# Altium footprint library IPC-SM-782 Section 14.1.3 PBGA 1.0mm.PcbLib: 50 footprints (part 4 of 14)
Each footprint in its own frame and in the unit in brackets; x right, y up, seen from the top. Pads: shape width x height; smd on the part's side, far side on the other; paste and mask are expansions set on the pad; w line width, h text height; cw(c..) or ccw(c..) is an arc to the next point about the centre after c.
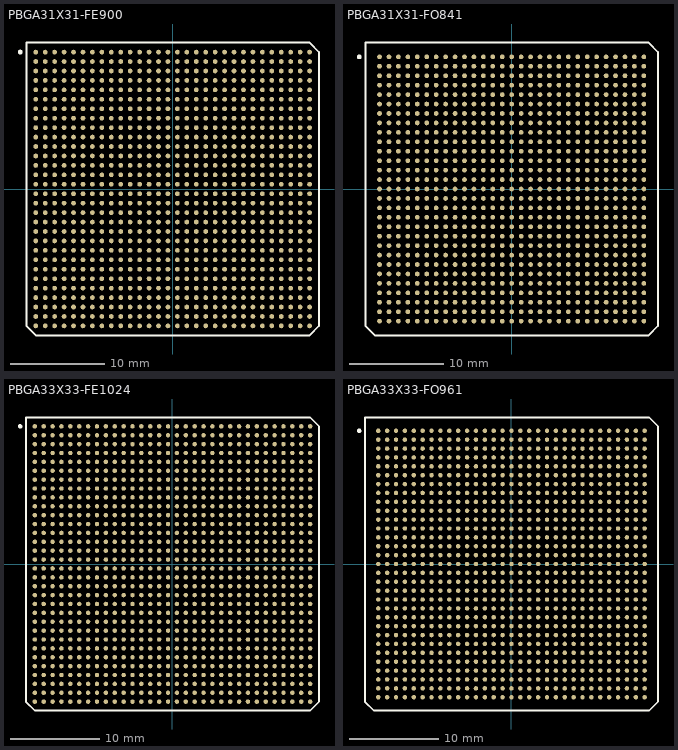
[diagram p3: the footprints below, top view; thin cyan lines are the x and y axes]

## PBGA31X31-FE900 [mm] "BGA; 900 Balls; Body 31 x 31 mm; Pitch 1 mm"
height 3.5
pads (900):
  round 0.5 smd: A1(-14.5,14.5) A2(-13.5,14.5) A3(-12.5,14.5) A4(-11.5,14.5) A5(-10.5,14.5) A6(-9.5,14.5) A7(-8.5,14.5) A8(-7.5,14.5) A9(-6.5,14.5) A10(-5.5,14.5) A11(-4.5,14.5) A12(-3.5,14.5) A13(-2.5,14.5) A14(-1.5,14.5) A15(-0.5,14.5) A16(0.5,14.5) A17(1.5,14.5) A18(2.5,14.5) A19(3.5,14.5) A20(4.5,14.5) A21(5.5,14.5) A22(6.5,14.5) A23(7.5,14.5) A24(8.5,14.5) A25(9.5,14.5) A26(10.5,14.5) A27(11.5,14.5) A28(12.5,14.5) A29(13.5,14.5) A30(14.5,14.5) AA1(-14.5,-5.5) AA2(-13.5,-5.5) AA3(-12.5,-5.5) AA4(-11.5,-5.5) AA5(-10.5,-5.5) AA6(-9.5,-5.5) AA7(-8.5,-5.5) AA8(-7.5,-5.5) AA9(-6.5,-5.5) AA10(-5.5,-5.5) AA11(-4.5,-5.5) AA12(-3.5,-5.5) AA13(-2.5,-5.5) AA14(-1.5,-5.5) AA15(-0.5,-5.5) AA16(0.5,-5.5) AA17(1.5,-5.5) AA18(2.5,-5.5) AA19(3.5,-5.5) AA20(4.5,-5.5) AA21(5.5,-5.5) AA22(6.5,-5.5) AA23(7.5,-5.5) AA24(8.5,-5.5) AA25(9.5,-5.5) AA26(10.5,-5.5) AA27(11.5,-5.5) AA28(12.5,-5.5) AA29(13.5,-5.5) AA30(14.5,-5.5) AB1(-14.5,-6.5) AB2(-13.5,-6.5) AB3(-12.5,-6.5) AB4(-11.5,-6.5) AB5(-10.5,-6.5) AB6(-9.5,-6.5) AB7(-8.5,-6.5) AB8(-7.5,-6.5) AB9(-6.5,-6.5) AB10(-5.5,-6.5) AB11(-4.5,-6.5) AB12(-3.5,-6.5) AB13(-2.5,-6.5) AB14(-1.5,-6.5) AB15(-0.5,-6.5) AB16(0.5,-6.5) AB17(1.5,-6.5) AB18(2.5,-6.5) AB19(3.5,-6.5) AB20(4.5,-6.5) AB21(5.5,-6.5) AB22(6.5,-6.5) AB23(7.5,-6.5) AB24(8.5,-6.5) AB25(9.5,-6.5) AB26(10.5,-6.5) AB27(11.5,-6.5) AB28(12.5,-6.5) AB29(13.5,-6.5) AB30(14.5,-6.5) AC1(-14.5,-7.5) AC2(-13.5,-7.5) AC3(-12.5,-7.5) AC4(-11.5,-7.5) AC5(-10.5,-7.5) AC6(-9.5,-7.5) AC7(-8.5,-7.5) AC8(-7.5,-7.5) AC9(-6.5,-7.5) AC10(-5.5,-7.5) AC11(-4.5,-7.5) AC12(-3.5,-7.5) AC13(-2.5,-7.5) AC14(-1.5,-7.5) AC15(-0.5,-7.5) AC16(0.5,-7.5) AC17(1.5,-7.5) AC18(2.5,-7.5) AC19(3.5,-7.5) AC20(4.5,-7.5) AC21(5.5,-7.5) AC22(6.5,-7.5) AC23(7.5,-7.5) AC24(8.5,-7.5) AC25(9.5,-7.5) AC26(10.5,-7.5) AC27(11.5,-7.5) AC28(12.5,-7.5) AC29(13.5,-7.5) AC30(14.5,-7.5) AD1(-14.5,-8.5) AD2(-13.5,-8.5) AD3(-12.5,-8.5) AD4(-11.5,-8.5) AD5(-10.5,-8.5) AD6(-9.5,-8.5) AD7(-8.5,-8.5) AD8(-7.5,-8.5) AD9(-6.5,-8.5) AD10(-5.5,-8.5) AD11(-4.5,-8.5) AD12(-3.5,-8.5) AD13(-2.5,-8.5) AD14(-1.5,-8.5) AD15(-0.5,-8.5) AD16(0.5,-8.5) AD17(1.5,-8.5) AD18(2.5,-8.5) AD19(3.5,-8.5) AD20(4.5,-8.5) AD21(5.5,-8.5) AD22(6.5,-8.5) AD23(7.5,-8.5) AD24(8.5,-8.5) AD25(9.5,-8.5) AD26(10.5,-8.5) AD27(11.5,-8.5) AD28(12.5,-8.5) AD29(13.5,-8.5) AD30(14.5,-8.5) AE1(-14.5,-9.5) AE2(-13.5,-9.5) AE3(-12.5,-9.5) AE4(-11.5,-9.5) AE5(-10.5,-9.5) AE6(-9.5,-9.5) AE7(-8.5,-9.5) AE8(-7.5,-9.5) AE9(-6.5,-9.5) AE10(-5.5,-9.5) AE11(-4.5,-9.5) AE12(-3.5,-9.5) AE13(-2.5,-9.5) AE14(-1.5,-9.5) AE15(-0.5,-9.5) AE16(0.5,-9.5) AE17(1.5,-9.5) AE18(2.5,-9.5) AE19(3.5,-9.5) AE20(4.5,-9.5) AE21(5.5,-9.5) AE22(6.5,-9.5) AE23(7.5,-9.5) AE24(8.5,-9.5) AE25(9.5,-9.5) AE26(10.5,-9.5) AE27(11.5,-9.5) AE28(12.5,-9.5) AE29(13.5,-9.5) AE30(14.5,-9.5) AF1(-14.5,-10.5) AF2(-13.5,-10.5) AF3(-12.5,-10.5) AF4(-11.5,-10.5) AF5(-10.5,-10.5) AF6(-9.5,-10.5) AF7(-8.5,-10.5) AF8(-7.5,-10.5) AF9(-6.5,-10.5) AF10(-5.5,-10.5) AF11(-4.5,-10.5) AF12(-3.5,-10.5) AF13(-2.5,-10.5) AF14(-1.5,-10.5) AF15(-0.5,-10.5) AF16(0.5,-10.5) AF17(1.5,-10.5) AF18(2.5,-10.5) AF19(3.5,-10.5) AF20(4.5,-10.5) AF21(5.5,-10.5) AF22(6.5,-10.5) AF23(7.5,-10.5) AF24(8.5,-10.5) AF25(9.5,-10.5) AF26(10.5,-10.5) AF27(11.5,-10.5) AF28(12.5,-10.5) AF29(13.5,-10.5) AF30(14.5,-10.5) AG1(-14.5,-11.5) AG2(-13.5,-11.5) AG3(-12.5,-11.5) AG4(-11.5,-11.5) AG5(-10.5,-11.5) AG6(-9.5,-11.5) AG7(-8.5,-11.5) AG8(-7.5,-11.5) AG9(-6.5,-11.5) AG10(-5.5,-11.5) AG11(-4.5,-11.5) AG12(-3.5,-11.5) AG13(-2.5,-11.5) AG14(-1.5,-11.5) AG15(-0.5,-11.5) AG16(0.5,-11.5) AG17(1.5,-11.5) AG18(2.5,-11.5) AG19(3.5,-11.5) AG20(4.5,-11.5) AG21(5.5,-11.5) AG22(6.5,-11.5) AG23(7.5,-11.5) AG24(8.5,-11.5) AG25(9.5,-11.5) AG26(10.5,-11.5) AG27(11.5,-11.5) AG28(12.5,-11.5) AG29(13.5,-11.5) AG30(14.5,-11.5) AH1(-14.5,-12.5) AH2(-13.5,-12.5) AH3(-12.5,-12.5) AH4(-11.5,-12.5) AH5(-10.5,-12.5) AH6(-9.5,-12.5) AH7(-8.5,-12.5) AH8(-7.5,-12.5) AH9(-6.5,-12.5) AH10(-5.5,-12.5) AH11(-4.5,-12.5) AH12(-3.5,-12.5) AH13(-2.5,-12.5) AH14(-1.5,-12.5) AH15(-0.5,-12.5) AH16(0.5,-12.5) AH17(1.5,-12.5) AH18(2.5,-12.5) AH19(3.5,-12.5) AH20(4.5,-12.5) AH21(5.5,-12.5) AH22(6.5,-12.5) AH23(7.5,-12.5) AH24(8.5,-12.5) AH25(9.5,-12.5) AH26(10.5,-12.5) AH27(11.5,-12.5) AH28(12.5,-12.5) AH29(13.5,-12.5) AH30(14.5,-12.5) AJ1(-14.5,-13.5) AJ2(-13.5,-13.5) AJ3(-12.5,-13.5) AJ4(-11.5,-13.5) AJ5(-10.5,-13.5) AJ6(-9.5,-13.5) AJ7(-8.5,-13.5) AJ8(-7.5,-13.5) AJ9(-6.5,-13.5) AJ10(-5.5,-13.5) AJ11(-4.5,-13.5) AJ12(-3.5,-13.5) AJ13(-2.5,-13.5) AJ14(-1.5,-13.5) AJ15(-0.5,-13.5) AJ16(0.5,-13.5) AJ17(1.5,-13.5) AJ18(2.5,-13.5) AJ19(3.5,-13.5) AJ20(4.5,-13.5) AJ21(5.5,-13.5) AJ22(6.5,-13.5) AJ23(7.5,-13.5) AJ24(8.5,-13.5) AJ25(9.5,-13.5) AJ26(10.5,-13.5) AJ27(11.5,-13.5) AJ28(12.5,-13.5) AJ29(13.5,-13.5) AJ30(14.5,-13.5) AK1(-14.5,-14.5) AK2(-13.5,-14.5) AK3(-12.5,-14.5) AK4(-11.5,-14.5) AK5(-10.5,-14.5) AK6(-9.5,-14.5) AK7(-8.5,-14.5) AK8(-7.5,-14.5) AK9(-6.5,-14.5) AK10(-5.5,-14.5) AK11(-4.5,-14.5) AK12(-3.5,-14.5) AK13(-2.5,-14.5) AK14(-1.5,-14.5) AK15(-0.5,-14.5) AK16(0.5,-14.5) AK17(1.5,-14.5) AK18(2.5,-14.5) AK19(3.5,-14.5) AK20(4.5,-14.5) AK21(5.5,-14.5) AK22(6.5,-14.5) AK23(7.5,-14.5) AK24(8.5,-14.5) AK25(9.5,-14.5) AK26(10.5,-14.5) AK27(11.5,-14.5) AK28(12.5,-14.5) AK29(13.5,-14.5) AK30(14.5,-14.5) B1(-14.5,13.5) B2(-13.5,13.5) B3(-12.5,13.5) B4(-11.5,13.5) B5(-10.5,13.5) B6(-9.5,13.5) B7(-8.5,13.5) B8(-7.5,13.5) B9(-6.5,13.5) B10(-5.5,13.5) B11(-4.5,13.5) B12(-3.5,13.5) B13(-2.5,13.5) B14(-1.5,13.5) B15(-0.5,13.5) B16(0.5,13.5) B17(1.5,13.5) B18(2.5,13.5) B19(3.5,13.5) B20(4.5,13.5) B21(5.5,13.5) B22(6.5,13.5) B23(7.5,13.5) B24(8.5,13.5) B25(9.5,13.5) B26(10.5,13.5) B27(11.5,13.5) B28(12.5,13.5) B29(13.5,13.5) B30(14.5,13.5) C1(-14.5,12.5) C2(-13.5,12.5) C3(-12.5,12.5) C4(-11.5,12.5) C5(-10.5,12.5) C6(-9.5,12.5) C7(-8.5,12.5) C8(-7.5,12.5) C9(-6.5,12.5) C10(-5.5,12.5) C11(-4.5,12.5) C12(-3.5,12.5) C13(-2.5,12.5) C14(-1.5,12.5) C15(-0.5,12.5) C16(0.5,12.5) C17(1.5,12.5) C18(2.5,12.5) C19(3.5,12.5) C20(4.5,12.5) C21(5.5,12.5) C22(6.5,12.5) C23(7.5,12.5) C24(8.5,12.5) C25(9.5,12.5) C26(10.5,12.5) C27(11.5,12.5) C28(12.5,12.5) C29(13.5,12.5) C30(14.5,12.5) D1(-14.5,11.5) D2(-13.5,11.5) D3(-12.5,11.5) D4(-11.5,11.5) D5(-10.5,11.5) D6(-9.5,11.5) D7(-8.5,11.5) D8(-7.5,11.5) D9(-6.5,11.5) D10(-5.5,11.5) D11(-4.5,11.5) D12(-3.5,11.5) D13(-2.5,11.5) D14(-1.5,11.5) D15(-0.5,11.5) D16(0.5,11.5) D17(1.5,11.5) D18(2.5,11.5) D19(3.5,11.5) D20(4.5,11.5) D21(5.5,11.5) D22(6.5,11.5) D23(7.5,11.5) D24(8.5,11.5) D25(9.5,11.5) D26(10.5,11.5) D27(11.5,11.5) D28(12.5,11.5) D29(13.5,11.5) D30(14.5,11.5) E1(-14.5,10.5) E2(-13.5,10.5) E3(-12.5,10.5) E4(-11.5,10.5) E5(-10.5,10.5) E6(-9.5,10.5) E7(-8.5,10.5) E8(-7.5,10.5) E9(-6.5,10.5) E10(-5.5,10.5) E11(-4.5,10.5) E12(-3.5,10.5) E13(-2.5,10.5) E14(-1.5,10.5) E15(-0.5,10.5) E16(0.5,10.5) E17(1.5,10.5) E18(2.5,10.5) E19(3.5,10.5) E20(4.5,10.5) E21(5.5,10.5) E22(6.5,10.5) E23(7.5,10.5) E24(8.5,10.5) E25(9.5,10.5) E26(10.5,10.5) E27(11.5,10.5) E28(12.5,10.5) E29(13.5,10.5) E30(14.5,10.5) F1(-14.5,9.5) F2(-13.5,9.5) F3(-12.5,9.5) F4(-11.5,9.5) F5(-10.5,9.5) F6(-9.5,9.5) F7(-8.5,9.5) F8(-7.5,9.5) F9(-6.5,9.5) F10(-5.5,9.5) F11(-4.5,9.5) F12(-3.5,9.5) F13(-2.5,9.5) F14(-1.5,9.5) F15(-0.5,9.5) F16(0.5,9.5) F17(1.5,9.5) F18(2.5,9.5) F19(3.5,9.5) F20(4.5,9.5) F21(5.5,9.5) F22(6.5,9.5) F23(7.5,9.5) F24(8.5,9.5) F25(9.5,9.5) F26(10.5,9.5) F27(11.5,9.5) F28(12.5,9.5) F29(13.5,9.5) F30(14.5,9.5) G1(-14.5,8.5) G2(-13.5,8.5) G3(-12.5,8.5) G4(-11.5,8.5) G5(-10.5,8.5) G6(-9.5,8.5) G7(-8.5,8.5) G8(-7.5,8.5) G9(-6.5,8.5) G10(-5.5,8.5) G11(-4.5,8.5) G12(-3.5,8.5) G13(-2.5,8.5) G14(-1.5,8.5) G15(-0.5,8.5) G16(0.5,8.5) G17(1.5,8.5) G18(2.5,8.5) G19(3.5,8.5) G20(4.5,8.5) G21(5.5,8.5) G22(6.5,8.5) G23(7.5,8.5) G24(8.5,8.5) G25(9.5,8.5) G26(10.5,8.5) G27(11.5,8.5) G28(12.5,8.5) G29(13.5,8.5) G30(14.5,8.5) H1(-14.5,7.5) H2(-13.5,7.5) H3(-12.5,7.5) H4(-11.5,7.5) H5(-10.5,7.5) H6(-9.5,7.5) H7(-8.5,7.5) H8(-7.5,7.5) H9(-6.5,7.5) H10(-5.5,7.5) H11(-4.5,7.5) H12(-3.5,7.5) H13(-2.5,7.5) H14(-1.5,7.5) H15(-0.5,7.5) H16(0.5,7.5) H17(1.5,7.5) H18(2.5,7.5) H19(3.5,7.5) H20(4.5,7.5) H21(5.5,7.5) H22(6.5,7.5) H23(7.5,7.5) H24(8.5,7.5) H25(9.5,7.5) H26(10.5,7.5) H27(11.5,7.5) H28(12.5,7.5) H29(13.5,7.5) H30(14.5,7.5) J1(-14.5,6.5) J2(-13.5,6.5) J3(-12.5,6.5) J4(-11.5,6.5) J5(-10.5,6.5) J6(-9.5,6.5) J7(-8.5,6.5) J8(-7.5,6.5) J9(-6.5,6.5) J10(-5.5,6.5) J11(-4.5,6.5) J12(-3.5,6.5) J13(-2.5,6.5) J14(-1.5,6.5) J15(-0.5,6.5) J16(0.5,6.5) J17(1.5,6.5) J18(2.5,6.5) J19(3.5,6.5) J20(4.5,6.5) J21(5.5,6.5) J22(6.5,6.5) J23(7.5,6.5) J24(8.5,6.5) J25(9.5,6.5) J26(10.5,6.5) J27(11.5,6.5) J28(12.5,6.5) J29(13.5,6.5) J30(14.5,6.5) K1(-14.5,5.5) K2(-13.5,5.5) K3(-12.5,5.5) K4(-11.5,5.5) K5(-10.5,5.5) K6(-9.5,5.5) K7(-8.5,5.5) K8(-7.5,5.5) K9(-6.5,5.5) K10(-5.5,5.5) K11(-4.5,5.5) K12(-3.5,5.5) K13(-2.5,5.5) K14(-1.5,5.5) K15(-0.5,5.5) K16(0.5,5.5) K17(1.5,5.5) K18(2.5,5.5) K19(3.5,5.5) K20(4.5,5.5) K21(5.5,5.5) K22(6.5,5.5) K23(7.5,5.5) K24(8.5,5.5) K25(9.5,5.5) K26(10.5,5.5) K27(11.5,5.5) K28(12.5,5.5) K29(13.5,5.5) K30(14.5,5.5) L1(-14.5,4.5) L2(-13.5,4.5) L3(-12.5,4.5) L4(-11.5,4.5) L5(-10.5,4.5) L6(-9.5,4.5) L7(-8.5,4.5) L8(-7.5,4.5) L9(-6.5,4.5) L10(-5.5,4.5) L11(-4.5,4.5) L12(-3.5,4.5) L13(-2.5,4.5) L14(-1.5,4.5) L15(-0.5,4.5) L16(0.5,4.5) L17(1.5,4.5) L18(2.5,4.5) L19(3.5,4.5) L20(4.5,4.5) L21(5.5,4.5) L22(6.5,4.5) L23(7.5,4.5) L24(8.5,4.5) L25(9.5,4.5) L26(10.5,4.5) L27(11.5,4.5) L28(12.5,4.5) L29(13.5,4.5) L30(14.5,4.5) M1(-14.5,3.5) M2(-13.5,3.5) M3(-12.5,3.5) M4(-11.5,3.5) M5(-10.5,3.5) M6(-9.5,3.5) M7(-8.5,3.5) M8(-7.5,3.5) M9(-6.5,3.5) M10(-5.5,3.5) M11(-4.5,3.5) M12(-3.5,3.5) M13(-2.5,3.5) M14(-1.5,3.5) M15(-0.5,3.5) M16(0.5,3.5) M17(1.5,3.5) M18(2.5,3.5) M19(3.5,3.5) M20(4.5,3.5) M21(5.5,3.5) M22(6.5,3.5) M23(7.5,3.5) M24(8.5,3.5) M25(9.5,3.5) M26(10.5,3.5) M27(11.5,3.5) M28(12.5,3.5) M29(13.5,3.5) M30(14.5,3.5) N1(-14.5,2.5) N2(-13.5,2.5) N3(-12.5,2.5) N4(-11.5,2.5) N5(-10.5,2.5) N6(-9.5,2.5) N7(-8.5,2.5) N8(-7.5,2.5) N9(-6.5,2.5) N10(-5.5,2.5) N11(-4.5,2.5) N12(-3.5,2.5) N13(-2.5,2.5) N14(-1.5,2.5) N15(-0.5,2.5) N16(0.5,2.5) N17(1.5,2.5) N18(2.5,2.5) N19(3.5,2.5) N20(4.5,2.5) N21(5.5,2.5) N22(6.5,2.5) N23(7.5,2.5) N24(8.5,2.5) N25(9.5,2.5) N26(10.5,2.5) N27(11.5,2.5) N28(12.5,2.5) N29(13.5,2.5) N30(14.5,2.5) P1(-14.5,1.5) P2(-13.5,1.5) P3(-12.5,1.5) P4(-11.5,1.5) P5(-10.5,1.5) P6(-9.5,1.5) P7(-8.5,1.5) P8(-7.5,1.5) P9(-6.5,1.5) P10(-5.5,1.5) P11(-4.5,1.5) P12(-3.5,1.5) P13(-2.5,1.5) P14(-1.5,1.5) P15(-0.5,1.5) P16(0.5,1.5) P17(1.5,1.5) P18(2.5,1.5) P19(3.5,1.5) P20(4.5,1.5) P21(5.5,1.5) P22(6.5,1.5) P23(7.5,1.5) P24(8.5,1.5) P25(9.5,1.5) P26(10.5,1.5) P27(11.5,1.5) P28(12.5,1.5) P29(13.5,1.5) P30(14.5,1.5) R1(-14.5,0.5) R2(-13.5,0.5) R3(-12.5,0.5) R4(-11.5,0.5) R5(-10.5,0.5) R6(-9.5,0.5) R7(-8.5,0.5) R8(-7.5,0.5) R9(-6.5,0.5) R10(-5.5,0.5) R11(-4.5,0.5) R12(-3.5,0.5) R13(-2.5,0.5) R14(-1.5,0.5) R15(-0.5,0.5) R16(0.5,0.5) R17(1.5,0.5) R18(2.5,0.5) R19(3.5,0.5) R20(4.5,0.5) R21(5.5,0.5) R22(6.5,0.5) R23(7.5,0.5) R24(8.5,0.5) R25(9.5,0.5) R26(10.5,0.5) R27(11.5,0.5) R28(12.5,0.5) R29(13.5,0.5) R30(14.5,0.5) T1(-14.5,-0.5) T2(-13.5,-0.5) T3(-12.5,-0.5) T4(-11.5,-0.5) T5(-10.5,-0.5) T6(-9.5,-0.5) T7(-8.5,-0.5) T8(-7.5,-0.5) T9(-6.5,-0.5) T10(-5.5,-0.5) T11(-4.5,-0.5) T12(-3.5,-0.5) T13(-2.5,-0.5) T14(-1.5,-0.5) T15(-0.5,-0.5) T16(0.5,-0.5) T17(1.5,-0.5) T18(2.5,-0.5) T19(3.5,-0.5) T20(4.5,-0.5) T21(5.5,-0.5) T22(6.5,-0.5) T23(7.5,-0.5) T24(8.5,-0.5) T25(9.5,-0.5) T26(10.5,-0.5) T27(11.5,-0.5) T28(12.5,-0.5) T29(13.5,-0.5) T30(14.5,-0.5) U1(-14.5,-1.5) U2(-13.5,-1.5) U3(-12.5,-1.5) U4(-11.5,-1.5) U5(-10.5,-1.5) U6(-9.5,-1.5) U7(-8.5,-1.5) U8(-7.5,-1.5) U9(-6.5,-1.5) U10(-5.5,-1.5) U11(-4.5,-1.5) U12(-3.5,-1.5) U13(-2.5,-1.5) U14(-1.5,-1.5) U15(-0.5,-1.5) U16(0.5,-1.5) U17(1.5,-1.5) U18(2.5,-1.5) U19(3.5,-1.5) U20(4.5,-1.5) U21(5.5,-1.5) U22(6.5,-1.5) U23(7.5,-1.5) U24(8.5,-1.5) U25(9.5,-1.5) U26(10.5,-1.5) U27(11.5,-1.5) U28(12.5,-1.5) U29(13.5,-1.5) U30(14.5,-1.5) V1(-14.5,-2.5) V2(-13.5,-2.5) V3(-12.5,-2.5) V4(-11.5,-2.5) V5(-10.5,-2.5) V6(-9.5,-2.5) V7(-8.5,-2.5) V8(-7.5,-2.5) V9(-6.5,-2.5) V10(-5.5,-2.5) V11(-4.5,-2.5) V12(-3.5,-2.5) V13(-2.5,-2.5) V14(-1.5,-2.5) V15(-0.5,-2.5) V16(0.5,-2.5) V17(1.5,-2.5) V18(2.5,-2.5) V19(3.5,-2.5) V20(4.5,-2.5) V21(5.5,-2.5) V22(6.5,-2.5) V23(7.5,-2.5) V24(8.5,-2.5) V25(9.5,-2.5) V26(10.5,-2.5) V27(11.5,-2.5) V28(12.5,-2.5) V29(13.5,-2.5) V30(14.5,-2.5) W1(-14.5,-3.5) W2(-13.5,-3.5) W3(-12.5,-3.5) W4(-11.5,-3.5) W5(-10.5,-3.5) W6(-9.5,-3.5) W7(-8.5,-3.5) W8(-7.5,-3.5) W9(-6.5,-3.5) W10(-5.5,-3.5) W11(-4.5,-3.5) W12(-3.5,-3.5) W13(-2.5,-3.5) W14(-1.5,-3.5) W15(-0.5,-3.5) W16(0.5,-3.5) W17(1.5,-3.5) W18(2.5,-3.5) W19(3.5,-3.5) W20(4.5,-3.5) W21(5.5,-3.5) W22(6.5,-3.5) W23(7.5,-3.5) W24(8.5,-3.5) W25(9.5,-3.5) W26(10.5,-3.5) W27(11.5,-3.5) W28(12.5,-3.5) W29(13.5,-3.5) W30(14.5,-3.5) Y1(-14.5,-4.5) Y2(-13.5,-4.5) Y3(-12.5,-4.5) Y4(-11.5,-4.5) Y5(-10.5,-4.5) Y6(-9.5,-4.5) Y7(-8.5,-4.5) Y8(-7.5,-4.5) Y9(-6.5,-4.5) Y10(-5.5,-4.5) Y11(-4.5,-4.5) Y12(-3.5,-4.5) Y13(-2.5,-4.5) Y14(-1.5,-4.5) Y15(-0.5,-4.5) Y16(0.5,-4.5) Y17(1.5,-4.5) Y18(2.5,-4.5) Y19(3.5,-4.5) Y20(4.5,-4.5) Y21(5.5,-4.5) Y22(6.5,-4.5) Y23(7.5,-4.5) Y24(8.5,-4.5) Y25(9.5,-4.5) Y26(10.5,-4.5) Y27(11.5,-4.5) Y28(12.5,-4.5) Y29(13.5,-4.5) Y30(14.5,-4.5)
Top Overlay:
  circle w0.25: c-16.15,14.5 r0.125
  lines w0.2: -15.5,-14.5 -15.5,15.5 14.5,15.5 15.5,14.5 15.5,-14.5 14.5,-15.5 -14.5,-15.5 -15.5,-14.5

## PBGA31X31-FO841 [mm] "BGA; 841 Balls; Body 31 x 31 mm; Pitch 1 mm"
height 3.5
pads (841):
  round 0.5 smd: A1(-14,14) A2(-13,14) A3(-12,14) A4(-11,14) A5(-10,14) A6(-9,14) A7(-8,14) A8(-7,14) A9(-6,14) A10(-5,14) A11(-4,14) A12(-3,14) A13(-2,14) A14(-1,14) A15(0,14) A16(1,14) A17(2,14) A18(3,14) A19(4,14) A20(5,14) A21(6,14) A22(7,14) A23(8,14) A24(9,14) A25(10,14) A26(11,14) A27(12,14) A28(13,14) A29(14,14) AA1(-14,-6) AA2(-13,-6) AA3(-12,-6) AA4(-11,-6) AA5(-10,-6) AA6(-9,-6) AA7(-8,-6) AA8(-7,-6) AA9(-6,-6) AA10(-5,-6) AA11(-4,-6) AA12(-3,-6) AA13(-2,-6) AA14(-1,-6) AA15(0,-6) AA16(1,-6) AA17(2,-6) AA18(3,-6) AA19(4,-6) AA20(5,-6) AA21(6,-6) AA22(7,-6) AA23(8,-6) AA24(9,-6) AA25(10,-6) AA26(11,-6) AA27(12,-6) AA28(13,-6) AA29(14,-6) AB1(-14,-7) AB2(-13,-7) AB3(-12,-7) AB4(-11,-7) AB5(-10,-7) AB6(-9,-7) AB7(-8,-7) AB8(-7,-7) AB9(-6,-7) AB10(-5,-7) AB11(-4,-7) AB12(-3,-7) AB13(-2,-7) AB14(-1,-7) AB15(0,-7) AB16(1,-7) AB17(2,-7) AB18(3,-7) AB19(4,-7) AB20(5,-7) AB21(6,-7) AB22(7,-7) AB23(8,-7) AB24(9,-7) AB25(10,-7) AB26(11,-7) AB27(12,-7) AB28(13,-7) AB29(14,-7) AC1(-14,-8) AC2(-13,-8) AC3(-12,-8) AC4(-11,-8) AC5(-10,-8) AC6(-9,-8) AC7(-8,-8) AC8(-7,-8) AC9(-6,-8) AC10(-5,-8) AC11(-4,-8) AC12(-3,-8) AC13(-2,-8) AC14(-1,-8) AC15(0,-8) AC16(1,-8) AC17(2,-8) AC18(3,-8) AC19(4,-8) AC20(5,-8) AC21(6,-8) AC22(7,-8) AC23(8,-8) AC24(9,-8) AC25(10,-8) AC26(11,-8) AC27(12,-8) AC28(13,-8) AC29(14,-8) AD1(-14,-9) AD2(-13,-9) AD3(-12,-9) AD4(-11,-9) AD5(-10,-9) AD6(-9,-9) AD7(-8,-9) AD8(-7,-9) AD9(-6,-9) AD10(-5,-9) AD11(-4,-9) AD12(-3,-9) AD13(-2,-9) AD14(-1,-9) AD15(0,-9) AD16(1,-9) AD17(2,-9) AD18(3,-9) AD19(4,-9) AD20(5,-9) AD21(6,-9) AD22(7,-9) AD23(8,-9) AD24(9,-9) AD25(10,-9) AD26(11,-9) AD27(12,-9) AD28(13,-9) AD29(14,-9) AE1(-14,-10) AE2(-13,-10) AE3(-12,-10) AE4(-11,-10) AE5(-10,-10) AE6(-9,-10) AE7(-8,-10) AE8(-7,-10) AE9(-6,-10) AE10(-5,-10) AE11(-4,-10) AE12(-3,-10) AE13(-2,-10) AE14(-1,-10) AE15(0,-10) AE16(1,-10) AE17(2,-10) AE18(3,-10) AE19(4,-10) AE20(5,-10) AE21(6,-10) AE22(7,-10) AE23(8,-10) AE24(9,-10) AE25(10,-10) AE26(11,-10) AE27(12,-10) AE28(13,-10) AE29(14,-10) AF1(-14,-11) AF2(-13,-11) AF3(-12,-11) AF4(-11,-11) AF5(-10,-11) AF6(-9,-11) AF7(-8,-11) AF8(-7,-11) AF9(-6,-11) AF10(-5,-11) AF11(-4,-11) AF12(-3,-11) AF13(-2,-11) AF14(-1,-11) AF15(0,-11) AF16(1,-11) AF17(2,-11) AF18(3,-11) AF19(4,-11) AF20(5,-11) AF21(6,-11) AF22(7,-11) AF23(8,-11) AF24(9,-11) AF25(10,-11) AF26(11,-11) AF27(12,-11) AF28(13,-11) AF29(14,-11) AG1(-14,-12) AG2(-13,-12) AG3(-12,-12) AG4(-11,-12) AG5(-10,-12) AG6(-9,-12) AG7(-8,-12) AG8(-7,-12) AG9(-6,-12) AG10(-5,-12) AG11(-4,-12) AG12(-3,-12) AG13(-2,-12) AG14(-1,-12) AG15(0,-12) AG16(1,-12) AG17(2,-12) AG18(3,-12) AG19(4,-12) AG20(5,-12) AG21(6,-12) AG22(7,-12) AG23(8,-12) AG24(9,-12) AG25(10,-12) AG26(11,-12) AG27(12,-12) AG28(13,-12) AG29(14,-12) AH1(-14,-13) AH2(-13,-13) AH3(-12,-13) AH4(-11,-13) AH5(-10,-13) AH6(-9,-13) AH7(-8,-13) AH8(-7,-13) AH9(-6,-13) AH10(-5,-13) AH11(-4,-13) AH12(-3,-13) AH13(-2,-13) AH14(-1,-13) AH15(0,-13) AH16(1,-13) AH17(2,-13) AH18(3,-13) AH19(4,-13) AH20(5,-13) AH21(6,-13) AH22(7,-13) AH23(8,-13) AH24(9,-13) AH25(10,-13) AH26(11,-13) AH27(12,-13) AH28(13,-13) AH29(14,-13) AJ1(-14,-14) AJ2(-13,-14) AJ3(-12,-14) AJ4(-11,-14) AJ5(-10,-14) AJ6(-9,-14) AJ7(-8,-14) AJ8(-7,-14) AJ9(-6,-14) AJ10(-5,-14) AJ11(-4,-14) AJ12(-3,-14) AJ13(-2,-14) AJ14(-1,-14) AJ15(0,-14) AJ16(1,-14) AJ17(2,-14) AJ18(3,-14) AJ19(4,-14) AJ20(5,-14) AJ21(6,-14) AJ22(7,-14) AJ23(8,-14) AJ24(9,-14) AJ25(10,-14) AJ26(11,-14) AJ27(12,-14) AJ28(13,-14) AJ29(14,-14) B1(-14,13) B2(-13,13) B3(-12,13) B4(-11,13) B5(-10,13) B6(-9,13) B7(-8,13) B8(-7,13) B9(-6,13) B10(-5,13) B11(-4,13) B12(-3,13) B13(-2,13) B14(-1,13) B15(0,13) B16(1,13) B17(2,13) B18(3,13) B19(4,13) B20(5,13) B21(6,13) B22(7,13) B23(8,13) B24(9,13) B25(10,13) B26(11,13) B27(12,13) B28(13,13) B29(14,13) C1(-14,12) C2(-13,12) C3(-12,12) C4(-11,12) C5(-10,12) C6(-9,12) C7(-8,12) C8(-7,12) C9(-6,12) C10(-5,12) C11(-4,12) C12(-3,12) C13(-2,12) C14(-1,12) C15(0,12) C16(1,12) C17(2,12) C18(3,12) C19(4,12) C20(5,12) C21(6,12) C22(7,12) C23(8,12) C24(9,12) C25(10,12) C26(11,12) C27(12,12) C28(13,12) C29(14,12) D1(-14,11) D2(-13,11) D3(-12,11) D4(-11,11) D5(-10,11) D6(-9,11) D7(-8,11) D8(-7,11) D9(-6,11) D10(-5,11) D11(-4,11) D12(-3,11) D13(-2,11) D14(-1,11) D15(0,11) D16(1,11) D17(2,11) D18(3,11) D19(4,11) D20(5,11) D21(6,11) D22(7,11) D23(8,11) D24(9,11) D25(10,11) D26(11,11) D27(12,11) D28(13,11) D29(14,11) E1(-14,10) E2(-13,10) E3(-12,10) E4(-11,10) E5(-10,10) E6(-9,10) E7(-8,10) E8(-7,10) E9(-6,10) E10(-5,10) E11(-4,10) E12(-3,10) E13(-2,10) E14(-1,10) E15(0,10) E16(1,10) E17(2,10) E18(3,10) E19(4,10) E20(5,10) E21(6,10) E22(7,10) E23(8,10) E24(9,10) E25(10,10) E26(11,10) E27(12,10) E28(13,10) E29(14,10) F1(-14,9) F2(-13,9) F3(-12,9) F4(-11,9) F5(-10,9) F6(-9,9) F7(-8,9) F8(-7,9) F9(-6,9) F10(-5,9) F11(-4,9) F12(-3,9) F13(-2,9) F14(-1,9) F15(0,9) F16(1,9) F17(2,9) F18(3,9) F19(4,9) F20(5,9) F21(6,9) F22(7,9) F23(8,9) F24(9,9) F25(10,9) F26(11,9) F27(12,9) F28(13,9) F29(14,9) G1(-14,8) G2(-13,8) G3(-12,8) G4(-11,8) G5(-10,8) G6(-9,8) G7(-8,8) G8(-7,8) G9(-6,8) G10(-5,8) G11(-4,8) G12(-3,8) G13(-2,8) G14(-1,8) G15(0,8) G16(1,8) G17(2,8) G18(3,8) G19(4,8) G20(5,8) G21(6,8) G22(7,8) G23(8,8) G24(9,8) G25(10,8) G26(11,8) G27(12,8) G28(13,8) G29(14,8) H1(-14,7) H2(-13,7) H3(-12,7) H4(-11,7) H5(-10,7) H6(-9,7) H7(-8,7) H8(-7,7) H9(-6,7) H10(-5,7) H11(-4,7) H12(-3,7) H13(-2,7) H14(-1,7) H15(0,7) H16(1,7) H17(2,7) H18(3,7) H19(4,7) H20(5,7) H21(6,7) H22(7,7) H23(8,7) H24(9,7) H25(10,7) H26(11,7) H27(12,7) H28(13,7) H29(14,7) J1(-14,6) J2(-13,6) J3(-12,6) J4(-11,6) J5(-10,6) J6(-9,6) J7(-8,6) J8(-7,6) J9(-6,6) J10(-5,6) J11(-4,6) J12(-3,6) J13(-2,6) J14(-1,6) J15(0,6) J16(1,6) J17(2,6) J18(3,6) J19(4,6) J20(5,6) J21(6,6) J22(7,6) J23(8,6) J24(9,6) J25(10,6) J26(11,6) J27(12,6) J28(13,6) J29(14,6) K1(-14,5) K2(-13,5) K3(-12,5) K4(-11,5) K5(-10,5) K6(-9,5) K7(-8,5) K8(-7,5) K9(-6,5) K10(-5,5) K11(-4,5) K12(-3,5) K13(-2,5) K14(-1,5) K15(0,5) K16(1,5) K17(2,5) K18(3,5) K19(4,5) K20(5,5) K21(6,5) K22(7,5) K23(8,5) K24(9,5) K25(10,5) K26(11,5) K27(12,5) K28(13,5) K29(14,5) L1(-14,4) L2(-13,4) L3(-12,4) L4(-11,4) L5(-10,4) L6(-9,4) L7(-8,4) L8(-7,4) L9(-6,4) L10(-5,4) L11(-4,4) L12(-3,4) L13(-2,4) L14(-1,4) L15(0,4) L16(1,4) L17(2,4) L18(3,4) L19(4,4) L20(5,4) L21(6,4) L22(7,4) L23(8,4) L24(9,4) L25(10,4) L26(11,4) L27(12,4) L28(13,4) L29(14,4) M1(-14,3) M2(-13,3) M3(-12,3) M4(-11,3) M5(-10,3) M6(-9,3) M7(-8,3) M8(-7,3) M9(-6,3) M10(-5,3) M11(-4,3) M12(-3,3) M13(-2,3) M14(-1,3) M15(0,3) M16(1,3) M17(2,3) M18(3,3) M19(4,3) M20(5,3) M21(6,3) M22(7,3) M23(8,3) M24(9,3) M25(10,3) M26(11,3) M27(12,3) M28(13,3) M29(14,3) N1(-14,2) N2(-13,2) N3(-12,2) N4(-11,2) N5(-10,2) N6(-9,2) N7(-8,2) N8(-7,2) N9(-6,2) N10(-5,2) N11(-4,2) N12(-3,2) N13(-2,2) N14(-1,2) N15(0,2) N16(1,2) N17(2,2) N18(3,2) N19(4,2) N20(5,2) N21(6,2) N22(7,2) N23(8,2) N24(9,2) N25(10,2) N26(11,2) N27(12,2) N28(13,2) N29(14,2) P1(-14,1) P2(-13,1) P3(-12,1) P4(-11,1) P5(-10,1) P6(-9,1) P7(-8,1) P8(-7,1) P9(-6,1) P10(-5,1) P11(-4,1) P12(-3,1) P13(-2,1) P14(-1,1) P15(0,1) P16(1,1) P17(2,1) P18(3,1) P19(4,1) P20(5,1) P21(6,1) P22(7,1) P23(8,1) P24(9,1) P25(10,1) P26(11,1) P27(12,1) P28(13,1) P29(14,1) R1(-14,0) R2(-13,0) R3(-12,0) R4(-11,0) R5(-10,0) R6(-9,0) R7(-8,0) R8(-7,0) R9(-6,0) R10(-5,0) R11(-4,0) R12(-3,0) R13(-2,0) R14(-1,0) R15(0,0) R16(1,0) R17(2,0) R18(3,0) R19(4,0) R20(5,0) R21(6,0) R22(7,0) R23(8,0) R24(9,0) R25(10,0) R26(11,0) R27(12,0) R28(13,0) R29(14,0) T1(-14,-1) T2(-13,-1) T3(-12,-1) T4(-11,-1) T5(-10,-1) T6(-9,-1) T7(-8,-1) T8(-7,-1) T9(-6,-1) T10(-5,-1) T11(-4,-1) T12(-3,-1) T13(-2,-1) T14(-1,-1) T15(0,-1) T16(1,-1) T17(2,-1) T18(3,-1) T19(4,-1) T20(5,-1) T21(6,-1) T22(7,-1) T23(8,-1) T24(9,-1) T25(10,-1) T26(11,-1) T27(12,-1) T28(13,-1) T29(14,-1) U1(-14,-2) U2(-13,-2) U3(-12,-2) U4(-11,-2) U5(-10,-2) U6(-9,-2) U7(-8,-2) U8(-7,-2) U9(-6,-2) U10(-5,-2) U11(-4,-2) U12(-3,-2) U13(-2,-2) U14(-1,-2) U15(0,-2) U16(1,-2) U17(2,-2) U18(3,-2) U19(4,-2) U20(5,-2) U21(6,-2) U22(7,-2) U23(8,-2) U24(9,-2) U25(10,-2) U26(11,-2) U27(12,-2) U28(13,-2) U29(14,-2) V1(-14,-3) V2(-13,-3) V3(-12,-3) V4(-11,-3) V5(-10,-3) V6(-9,-3) V7(-8,-3) V8(-7,-3) V9(-6,-3) V10(-5,-3) V11(-4,-3) V12(-3,-3) V13(-2,-3) V14(-1,-3) V15(0,-3) V16(1,-3) V17(2,-3) V18(3,-3) V19(4,-3) V20(5,-3) V21(6,-3) V22(7,-3) V23(8,-3) V24(9,-3) V25(10,-3) V26(11,-3) V27(12,-3) V28(13,-3) V29(14,-3) W1(-14,-4) W2(-13,-4) W3(-12,-4) W4(-11,-4) W5(-10,-4) W6(-9,-4) W7(-8,-4) W8(-7,-4) W9(-6,-4) W10(-5,-4) W11(-4,-4) W12(-3,-4) W13(-2,-4) W14(-1,-4) W15(0,-4) W16(1,-4) W17(2,-4) W18(3,-4) W19(4,-4) W20(5,-4) W21(6,-4) W22(7,-4) W23(8,-4) W24(9,-4) W25(10,-4) W26(11,-4) W27(12,-4) W28(13,-4) W29(14,-4) Y1(-14,-5) Y2(-13,-5) Y3(-12,-5) Y4(-11,-5) Y5(-10,-5) Y6(-9,-5) Y7(-8,-5) Y8(-7,-5) Y9(-6,-5) Y10(-5,-5) Y11(-4,-5) Y12(-3,-5) Y13(-2,-5) Y14(-1,-5) Y15(0,-5) Y16(1,-5) Y17(2,-5) Y18(3,-5) Y19(4,-5) Y20(5,-5) Y21(6,-5) Y22(7,-5) Y23(8,-5) Y24(9,-5) Y25(10,-5) Y26(11,-5) Y27(12,-5) Y28(13,-5) Y29(14,-5)
Top Overlay:
  circle w0.25: c-16.155,14 r0.125
  lines w0.2: -15.5,-14.5 -15.5,15.5 14.5,15.5 15.5,14.5 15.5,-14.5 14.5,-15.5 -14.5,-15.5 -15.5,-14.5

## PBGA33X33-FE1024 [mm] "BGA; 1024 Balls; Body 33 x 33 mm; Pitch 1 mm"
height 3.5
pads (1024):
  round 0.5 smd: A1(-15.5,15.5) A2(-14.5,15.5) A3(-13.5,15.5) A4(-12.5,15.5) A5(-11.5,15.5) A6(-10.5,15.5) A7(-9.5,15.5) A8(-8.5,15.5) A9(-7.5,15.5) A10(-6.5,15.5) A11(-5.5,15.5) A12(-4.5,15.5) A13(-3.5,15.5) A14(-2.5,15.5) A15(-1.5,15.5) A16(-0.5,15.5) A17(0.5,15.5) A18(1.5,15.5) A19(2.5,15.5) A20(3.5,15.5) A21(4.5,15.5) A22(5.5,15.5) A23(6.5,15.5) A24(7.5,15.5) A25(8.5,15.5) A26(9.5,15.5) A27(10.5,15.5) A28(11.5,15.5) A29(12.5,15.5) A30(13.5,15.5) A31(14.5,15.5) A32(15.5,15.5) AA1(-15.5,-4.5) AA2(-14.5,-4.5) AA3(-13.5,-4.5) AA4(-12.5,-4.5) AA5(-11.5,-4.5) AA6(-10.5,-4.5) AA7(-9.5,-4.5) AA8(-8.5,-4.5) AA9(-7.5,-4.5) AA10(-6.5,-4.5) AA11(-5.5,-4.5) AA12(-4.5,-4.5) AA13(-3.5,-4.5) AA14(-2.5,-4.5) AA15(-1.5,-4.5) AA16(-0.5,-4.5) AA17(0.5,-4.5) AA18(1.5,-4.5) AA19(2.5,-4.5) AA20(3.5,-4.5) AA21(4.5,-4.5) AA22(5.5,-4.5) AA23(6.5,-4.5) AA24(7.5,-4.5) AA25(8.5,-4.5) AA26(9.5,-4.5) AA27(10.5,-4.5) AA28(11.5,-4.5) AA29(12.5,-4.5) AA30(13.5,-4.5) AA31(14.5,-4.5) AA32(15.5,-4.5) AB1(-15.5,-5.5) AB2(-14.5,-5.5) AB3(-13.5,-5.5) AB4(-12.5,-5.5) AB5(-11.5,-5.5) AB6(-10.5,-5.5) AB7(-9.5,-5.5) AB8(-8.5,-5.5) AB9(-7.5,-5.5) AB10(-6.5,-5.5) AB11(-5.5,-5.5) AB12(-4.5,-5.5) AB13(-3.5,-5.5) AB14(-2.5,-5.5) AB15(-1.5,-5.5) AB16(-0.5,-5.5) AB17(0.5,-5.5) AB18(1.5,-5.5) AB19(2.5,-5.5) AB20(3.5,-5.5) AB21(4.5,-5.5) AB22(5.5,-5.5) AB23(6.5,-5.5) AB24(7.5,-5.5) AB25(8.5,-5.5) AB26(9.5,-5.5) AB27(10.5,-5.5) AB28(11.5,-5.5) AB29(12.5,-5.5) AB30(13.5,-5.5) AB31(14.5,-5.5) AB32(15.5,-5.5) AC1(-15.5,-6.5) AC2(-14.5,-6.5) AC3(-13.5,-6.5) AC4(-12.5,-6.5) AC5(-11.5,-6.5) AC6(-10.5,-6.5) AC7(-9.5,-6.5) AC8(-8.5,-6.5) AC9(-7.5,-6.5) AC10(-6.5,-6.5) AC11(-5.5,-6.5) AC12(-4.5,-6.5) AC13(-3.5,-6.5) AC14(-2.5,-6.5) AC15(-1.5,-6.5) AC16(-0.5,-6.5) AC17(0.5,-6.5) AC18(1.5,-6.5) AC19(2.5,-6.5) AC20(3.5,-6.5) AC21(4.5,-6.5) AC22(5.5,-6.5) AC23(6.5,-6.5) AC24(7.5,-6.5) AC25(8.5,-6.5) AC26(9.5,-6.5) AC27(10.5,-6.5) AC28(11.5,-6.5) AC29(12.5,-6.5) AC30(13.5,-6.5) AC31(14.5,-6.5) AC32(15.5,-6.5) AD1(-15.5,-7.5) AD2(-14.5,-7.5) AD3(-13.5,-7.5) AD4(-12.5,-7.5) AD5(-11.5,-7.5) AD6(-10.5,-7.5) AD7(-9.5,-7.5) AD8(-8.5,-7.5) AD9(-7.5,-7.5) AD10(-6.5,-7.5) AD11(-5.5,-7.5) AD12(-4.5,-7.5) AD13(-3.5,-7.5) AD14(-2.5,-7.5) AD15(-1.5,-7.5) AD16(-0.5,-7.5) AD17(0.5,-7.5) AD18(1.5,-7.5) AD19(2.5,-7.5) AD20(3.5,-7.5) AD21(4.5,-7.5) AD22(5.5,-7.5) AD23(6.5,-7.5) AD24(7.5,-7.5) AD25(8.5,-7.5) AD26(9.5,-7.5) AD27(10.5,-7.5) AD28(11.5,-7.5) AD29(12.5,-7.5) AD30(13.5,-7.5) AD31(14.5,-7.5) AD32(15.5,-7.5) AE1(-15.5,-8.5) AE2(-14.5,-8.5) AE3(-13.5,-8.5) AE4(-12.5,-8.5) AE5(-11.5,-8.5) AE6(-10.5,-8.5) AE7(-9.5,-8.5) AE8(-8.5,-8.5) AE9(-7.5,-8.5) AE10(-6.5,-8.5) AE11(-5.5,-8.5) AE12(-4.5,-8.5) AE13(-3.5,-8.5) AE14(-2.5,-8.5) AE15(-1.5,-8.5) AE16(-0.5,-8.5) AE17(0.5,-8.5) AE18(1.5,-8.5) AE19(2.5,-8.5) AE20(3.5,-8.5) AE21(4.5,-8.5) AE22(5.5,-8.5) AE23(6.5,-8.5) AE24(7.5,-8.5) AE25(8.5,-8.5) AE26(9.5,-8.5) AE27(10.5,-8.5) AE28(11.5,-8.5) AE29(12.5,-8.5) AE30(13.5,-8.5) AE31(14.5,-8.5) AE32(15.5,-8.5) AF1(-15.5,-9.5) AF2(-14.5,-9.5) AF3(-13.5,-9.5) AF4(-12.5,-9.5) AF5(-11.5,-9.5) AF6(-10.5,-9.5) AF7(-9.5,-9.5) AF8(-8.5,-9.5) AF9(-7.5,-9.5) AF10(-6.5,-9.5) AF11(-5.5,-9.5) AF12(-4.5,-9.5) AF13(-3.5,-9.5) AF14(-2.5,-9.5) AF15(-1.5,-9.5) AF16(-0.5,-9.5) AF17(0.5,-9.5) AF18(1.5,-9.5) AF19(2.5,-9.5) AF20(3.5,-9.5) AF21(4.5,-9.5) AF22(5.5,-9.5) AF23(6.5,-9.5) AF24(7.5,-9.5) AF25(8.5,-9.5) AF26(9.5,-9.5) AF27(10.5,-9.5) AF28(11.5,-9.5) AF29(12.5,-9.5) AF30(13.5,-9.5) AF31(14.5,-9.5) AF32(15.5,-9.5) AG1(-15.5,-10.5) AG2(-14.5,-10.5) AG3(-13.5,-10.5) AG4(-12.5,-10.5) AG5(-11.5,-10.5) AG6(-10.5,-10.5) AG7(-9.5,-10.5) AG8(-8.5,-10.5) AG9(-7.5,-10.5) AG10(-6.5,-10.5) AG11(-5.5,-10.5) AG12(-4.5,-10.5) AG13(-3.5,-10.5) AG14(-2.5,-10.5) AG15(-1.5,-10.5) AG16(-0.5,-10.5) AG17(0.5,-10.5) AG18(1.5,-10.5) AG19(2.5,-10.5) AG20(3.5,-10.5) AG21(4.5,-10.5) AG22(5.5,-10.5) AG23(6.5,-10.5) AG24(7.5,-10.5) AG25(8.5,-10.5) AG26(9.5,-10.5) AG27(10.5,-10.5) AG28(11.5,-10.5) AG29(12.5,-10.5) AG30(13.5,-10.5) AG31(14.5,-10.5) AG32(15.5,-10.5) AH1(-15.5,-11.5) AH2(-14.5,-11.5) AH3(-13.5,-11.5) AH4(-12.5,-11.5) AH5(-11.5,-11.5) AH6(-10.5,-11.5) AH7(-9.5,-11.5) AH8(-8.5,-11.5) AH9(-7.5,-11.5) AH10(-6.5,-11.5) AH11(-5.5,-11.5) AH12(-4.5,-11.5) AH13(-3.5,-11.5) AH14(-2.5,-11.5) AH15(-1.5,-11.5) AH16(-0.5,-11.5) AH17(0.5,-11.5) AH18(1.5,-11.5) AH19(2.5,-11.5) AH20(3.5,-11.5) AH21(4.5,-11.5) AH22(5.5,-11.5) AH23(6.5,-11.5) AH24(7.5,-11.5) AH25(8.5,-11.5) AH26(9.5,-11.5) AH27(10.5,-11.5) AH28(11.5,-11.5) AH29(12.5,-11.5) AH30(13.5,-11.5) AH31(14.5,-11.5) AH32(15.5,-11.5) AJ1(-15.5,-12.5) AJ2(-14.5,-12.5) AJ3(-13.5,-12.5) AJ4(-12.5,-12.5) AJ5(-11.5,-12.5) AJ6(-10.5,-12.5) AJ7(-9.5,-12.5) AJ8(-8.5,-12.5) AJ9(-7.5,-12.5) AJ10(-6.5,-12.5) AJ11(-5.5,-12.5) AJ12(-4.5,-12.5) AJ13(-3.5,-12.5) AJ14(-2.5,-12.5) AJ15(-1.5,-12.5) AJ16(-0.5,-12.5) AJ17(0.5,-12.5) AJ18(1.5,-12.5) AJ19(2.5,-12.5) AJ20(3.5,-12.5) AJ21(4.5,-12.5) AJ22(5.5,-12.5) AJ23(6.5,-12.5) AJ24(7.5,-12.5) AJ25(8.5,-12.5) AJ26(9.5,-12.5) AJ27(10.5,-12.5) AJ28(11.5,-12.5) AJ29(12.5,-12.5) AJ30(13.5,-12.5) AJ31(14.5,-12.5) AJ32(15.5,-12.5) AK1(-15.5,-13.5) AK2(-14.5,-13.5) AK3(-13.5,-13.5) AK4(-12.5,-13.5) AK5(-11.5,-13.5) AK6(-10.5,-13.5) AK7(-9.5,-13.5) AK8(-8.5,-13.5) AK9(-7.5,-13.5) AK10(-6.5,-13.5) AK11(-5.5,-13.5) AK12(-4.5,-13.5) AK13(-3.5,-13.5) AK14(-2.5,-13.5) AK15(-1.5,-13.5) AK16(-0.5,-13.5) AK17(0.5,-13.5) AK18(1.5,-13.5) AK19(2.5,-13.5) AK20(3.5,-13.5) AK21(4.5,-13.5) AK22(5.5,-13.5) AK23(6.5,-13.5) AK24(7.5,-13.5) AK25(8.5,-13.5) AK26(9.5,-13.5) AK27(10.5,-13.5) AK28(11.5,-13.5) AK29(12.5,-13.5) AK30(13.5,-13.5) AK31(14.5,-13.5) AK32(15.5,-13.5) AL1(-15.5,-14.5) AL2(-14.5,-14.5) AL3(-13.5,-14.5) AL4(-12.5,-14.5) AL5(-11.5,-14.5) AL6(-10.5,-14.5) AL7(-9.5,-14.5) AL8(-8.5,-14.5) AL9(-7.5,-14.5) AL10(-6.5,-14.5) AL11(-5.5,-14.5) AL12(-4.5,-14.5) AL13(-3.5,-14.5) AL14(-2.5,-14.5) AL15(-1.5,-14.5) AL16(-0.5,-14.5) AL17(0.5,-14.5) AL18(1.5,-14.5) AL19(2.5,-14.5) AL20(3.5,-14.5) AL21(4.5,-14.5) AL22(5.5,-14.5) AL23(6.5,-14.5) AL24(7.5,-14.5) AL25(8.5,-14.5) AL26(9.5,-14.5) AL27(10.5,-14.5) AL28(11.5,-14.5) AL29(12.5,-14.5) AL30(13.5,-14.5) AL31(14.5,-14.5) AL32(15.5,-14.5) AM1(-15.5,-15.5) AM2(-14.5,-15.5) AM3(-13.5,-15.5) AM4(-12.5,-15.5) AM5(-11.5,-15.5) AM6(-10.5,-15.5) AM7(-9.5,-15.5) AM8(-8.5,-15.5) AM9(-7.5,-15.5) AM10(-6.5,-15.5) AM11(-5.5,-15.5) AM12(-4.5,-15.5) AM13(-3.5,-15.5) AM14(-2.5,-15.5) AM15(-1.5,-15.5) AM16(-0.5,-15.5) AM17(0.5,-15.5) AM18(1.5,-15.5) AM19(2.5,-15.5) AM20(3.5,-15.5) AM21(4.5,-15.5) AM22(5.5,-15.5) AM23(6.5,-15.5) AM24(7.5,-15.5) AM25(8.5,-15.5) AM26(9.5,-15.5) AM27(10.5,-15.5) AM28(11.5,-15.5) AM29(12.5,-15.5) AM30(13.5,-15.5) AM31(14.5,-15.5) AM32(15.5,-15.5) B1(-15.5,14.5) B2(-14.5,14.5) B3(-13.5,14.5) B4(-12.5,14.5) B5(-11.5,14.5) B6(-10.5,14.5) B7(-9.5,14.5) B8(-8.5,14.5) B9(-7.5,14.5) B10(-6.5,14.5) B11(-5.5,14.5) B12(-4.5,14.5) B13(-3.5,14.5) B14(-2.5,14.5) B15(-1.5,14.5) B16(-0.5,14.5) B17(0.5,14.5) B18(1.5,14.5) B19(2.5,14.5) B20(3.5,14.5) B21(4.5,14.5) B22(5.5,14.5) B23(6.5,14.5) B24(7.5,14.5) B25(8.5,14.5) B26(9.5,14.5) B27(10.5,14.5) B28(11.5,14.5) B29(12.5,14.5) B30(13.5,14.5) B31(14.5,14.5) B32(15.5,14.5) C1(-15.5,13.5) C2(-14.5,13.5) C3(-13.5,13.5) C4(-12.5,13.5) C5(-11.5,13.5) C6(-10.5,13.5) C7(-9.5,13.5) C8(-8.5,13.5) C9(-7.5,13.5) C10(-6.5,13.5) C11(-5.5,13.5) C12(-4.5,13.5) C13(-3.5,13.5) C14(-2.5,13.5) C15(-1.5,13.5) C16(-0.5,13.5) C17(0.5,13.5) C18(1.5,13.5) C19(2.5,13.5) C20(3.5,13.5) C21(4.5,13.5) C22(5.5,13.5) C23(6.5,13.5) C24(7.5,13.5) C25(8.5,13.5) C26(9.5,13.5) C27(10.5,13.5) C28(11.5,13.5) C29(12.5,13.5) C30(13.5,13.5) C31(14.5,13.5) C32(15.5,13.5) D1(-15.5,12.5) D2(-14.5,12.5) D3(-13.5,12.5) D4(-12.5,12.5) D5(-11.5,12.5) D6(-10.5,12.5) D7(-9.5,12.5) D8(-8.5,12.5) D9(-7.5,12.5) D10(-6.5,12.5) D11(-5.5,12.5) D12(-4.5,12.5) D13(-3.5,12.5) D14(-2.5,12.5) D15(-1.5,12.5) D16(-0.5,12.5) D17(0.5,12.5) D18(1.5,12.5) D19(2.5,12.5) D20(3.5,12.5) D21(4.5,12.5) D22(5.5,12.5) D23(6.5,12.5) D24(7.5,12.5) D25(8.5,12.5) D26(9.5,12.5) D27(10.5,12.5) D28(11.5,12.5) D29(12.5,12.5) D30(13.5,12.5) D31(14.5,12.5) D32(15.5,12.5) E1(-15.5,11.5) E2(-14.5,11.5) E3(-13.5,11.5) E4(-12.5,11.5) E5(-11.5,11.5) E6(-10.5,11.5) E7(-9.5,11.5) E8(-8.5,11.5) E9(-7.5,11.5) E10(-6.5,11.5) E11(-5.5,11.5) E12(-4.5,11.5) E13(-3.5,11.5) E14(-2.5,11.5) E15(-1.5,11.5) E16(-0.5,11.5) E17(0.5,11.5) E18(1.5,11.5) E19(2.5,11.5) E20(3.5,11.5) E21(4.5,11.5) E22(5.5,11.5) E23(6.5,11.5) E24(7.5,11.5) E25(8.5,11.5) E26(9.5,11.5) E27(10.5,11.5) E28(11.5,11.5) E29(12.5,11.5) E30(13.5,11.5) E31(14.5,11.5) E32(15.5,11.5) F1(-15.5,10.5) F2(-14.5,10.5) F3(-13.5,10.5) F4(-12.5,10.5) F5(-11.5,10.5) F6(-10.5,10.5) F7(-9.5,10.5) F8(-8.5,10.5) F9(-7.5,10.5) F10(-6.5,10.5) F11(-5.5,10.5) F12(-4.5,10.5) F13(-3.5,10.5) F14(-2.5,10.5) F15(-1.5,10.5) F16(-0.5,10.5) F17(0.5,10.5) F18(1.5,10.5) F19(2.5,10.5) F20(3.5,10.5) F21(4.5,10.5) F22(5.5,10.5) F23(6.5,10.5) F24(7.5,10.5) F25(8.5,10.5) F26(9.5,10.5) F27(10.5,10.5) F28(11.5,10.5) F29(12.5,10.5) F30(13.5,10.5) F31(14.5,10.5) F32(15.5,10.5) G1(-15.5,9.5) G2(-14.5,9.5) G3(-13.5,9.5) G4(-12.5,9.5) G5(-11.5,9.5) G6(-10.5,9.5) G7(-9.5,9.5) G8(-8.5,9.5) G9(-7.5,9.5) G10(-6.5,9.5) G11(-5.5,9.5) G12(-4.5,9.5) G13(-3.5,9.5) G14(-2.5,9.5) G15(-1.5,9.5) G16(-0.5,9.5) G17(0.5,9.5) G18(1.5,9.5) G19(2.5,9.5) G20(3.5,9.5) G21(4.5,9.5) G22(5.5,9.5) G23(6.5,9.5) G24(7.5,9.5) G25(8.5,9.5) G26(9.5,9.5) G27(10.5,9.5) G28(11.5,9.5) G29(12.5,9.5) G30(13.5,9.5) G31(14.5,9.5) G32(15.5,9.5) H1(-15.5,8.5) H2(-14.5,8.5) H3(-13.5,8.5) H4(-12.5,8.5) H5(-11.5,8.5) H6(-10.5,8.5) H7(-9.5,8.5) H8(-8.5,8.5) H9(-7.5,8.5) H10(-6.5,8.5) H11(-5.5,8.5) H12(-4.5,8.5) H13(-3.5,8.5) H14(-2.5,8.5) H15(-1.5,8.5) H16(-0.5,8.5) H17(0.5,8.5) H18(1.5,8.5) H19(2.5,8.5) H20(3.5,8.5) H21(4.5,8.5) H22(5.5,8.5) H23(6.5,8.5) H24(7.5,8.5) H25(8.5,8.5) H26(9.5,8.5) H27(10.5,8.5) H28(11.5,8.5) H29(12.5,8.5) H30(13.5,8.5) H31(14.5,8.5) H32(15.5,8.5) J1(-15.5,7.5) J2(-14.5,7.5) J3(-13.5,7.5) J4(-12.5,7.5) J5(-11.5,7.5) J6(-10.5,7.5) J7(-9.5,7.5) J8(-8.5,7.5) J9(-7.5,7.5) J10(-6.5,7.5) J11(-5.5,7.5) J12(-4.5,7.5) J13(-3.5,7.5) J14(-2.5,7.5) J15(-1.5,7.5) J16(-0.5,7.5) J17(0.5,7.5) J18(1.5,7.5) J19(2.5,7.5) J20(3.5,7.5) J21(4.5,7.5) J22(5.5,7.5) J23(6.5,7.5) J24(7.5,7.5) J25(8.5,7.5) J26(9.5,7.5) J27(10.5,7.5) J28(11.5,7.5) J29(12.5,7.5) J30(13.5,7.5) J31(14.5,7.5) J32(15.5,7.5) K1(-15.5,6.5) K2(-14.5,6.5) K3(-13.5,6.5) K4(-12.5,6.5) K5(-11.5,6.5) K6(-10.5,6.5) K7(-9.5,6.5) K8(-8.5,6.5) K9(-7.5,6.5) K10(-6.5,6.5) K11(-5.5,6.5) K12(-4.5,6.5) K13(-3.5,6.5) K14(-2.5,6.5) K15(-1.5,6.5) K16(-0.5,6.5) K17(0.5,6.5) K18(1.5,6.5) K19(2.5,6.5) K20(3.5,6.5) K21(4.5,6.5) K22(5.5,6.5) K23(6.5,6.5) K24(7.5,6.5) K25(8.5,6.5) K26(9.5,6.5) K27(10.5,6.5) K28(11.5,6.5) K29(12.5,6.5) K30(13.5,6.5) K31(14.5,6.5) K32(15.5,6.5) L1(-15.5,5.5) L2(-14.5,5.5) L3(-13.5,5.5) L4(-12.5,5.5) L5(-11.5,5.5) L6(-10.5,5.5) L7(-9.5,5.5) L8(-8.5,5.5) L9(-7.5,5.5) L10(-6.5,5.5) L11(-5.5,5.5) L12(-4.5,5.5) L13(-3.5,5.5) L14(-2.5,5.5) L15(-1.5,5.5) L16(-0.5,5.5) L17(0.5,5.5) L18(1.5,5.5) L19(2.5,5.5) L20(3.5,5.5) L21(4.5,5.5) L22(5.5,5.5) L23(6.5,5.5) L24(7.5,5.5) L25(8.5,5.5) L26(9.5,5.5) L27(10.5,5.5) L28(11.5,5.5) L29(12.5,5.5) L30(13.5,5.5) L31(14.5,5.5) L32(15.5,5.5) M1(-15.5,4.5) M2(-14.5,4.5) M3(-13.5,4.5) M4(-12.5,4.5) M5(-11.5,4.5) M6(-10.5,4.5) M7(-9.5,4.5) M8(-8.5,4.5) M9(-7.5,4.5) M10(-6.5,4.5) M11(-5.5,4.5) M12(-4.5,4.5) M13(-3.5,4.5) M14(-2.5,4.5) M15(-1.5,4.5) M16(-0.5,4.5) M17(0.5,4.5) M18(1.5,4.5) M19(2.5,4.5) M20(3.5,4.5) M21(4.5,4.5) M22(5.5,4.5) M23(6.5,4.5) M24(7.5,4.5) M25(8.5,4.5) M26(9.5,4.5) M27(10.5,4.5) M28(11.5,4.5) M29(12.5,4.5) M30(13.5,4.5) M31(14.5,4.5) M32(15.5,4.5) N1(-15.5,3.5) N2(-14.5,3.5) N3(-13.5,3.5) N4(-12.5,3.5) N5(-11.5,3.5) N6(-10.5,3.5) N7(-9.5,3.5) N8(-8.5,3.5) N9(-7.5,3.5) N10(-6.5,3.5) N11(-5.5,3.5) N12(-4.5,3.5) N13(-3.5,3.5) N14(-2.5,3.5) N15(-1.5,3.5) N16(-0.5,3.5) N17(0.5,3.5) N18(1.5,3.5) N19(2.5,3.5) N20(3.5,3.5) N21(4.5,3.5) N22(5.5,3.5) N23(6.5,3.5) N24(7.5,3.5) N25(8.5,3.5) N26(9.5,3.5) N27(10.5,3.5) N28(11.5,3.5) N29(12.5,3.5) N30(13.5,3.5) N31(14.5,3.5) N32(15.5,3.5) P1(-15.5,2.5) P2(-14.5,2.5) P3(-13.5,2.5) P4(-12.5,2.5) P5(-11.5,2.5) P6(-10.5,2.5) P7(-9.5,2.5) P8(-8.5,2.5) P9(-7.5,2.5) P10(-6.5,2.5) P11(-5.5,2.5) P12(-4.5,2.5) P13(-3.5,2.5) P14(-2.5,2.5) P15(-1.5,2.5) P16(-0.5,2.5) P17(0.5,2.5) P18(1.5,2.5) P19(2.5,2.5) P20(3.5,2.5) P21(4.5,2.5) P22(5.5,2.5) P23(6.5,2.5) P24(7.5,2.5) P25(8.5,2.5) P26(9.5,2.5) P27(10.5,2.5) P28(11.5,2.5) P29(12.5,2.5) P30(13.5,2.5) P31(14.5,2.5) P32(15.5,2.5) R1(-15.5,1.5) R2(-14.5,1.5) R3(-13.5,1.5) R4(-12.5,1.5) R5(-11.5,1.5) R6(-10.5,1.5) R7(-9.5,1.5) R8(-8.5,1.5) R9(-7.5,1.5) R10(-6.5,1.5) R11(-5.5,1.5) R12(-4.5,1.5) R13(-3.5,1.5) R14(-2.5,1.5) R15(-1.5,1.5) R16(-0.5,1.5) R17(0.5,1.5) R18(1.5,1.5) R19(2.5,1.5) R20(3.5,1.5) R21(4.5,1.5) R22(5.5,1.5) R23(6.5,1.5) R24(7.5,1.5) R25(8.5,1.5) R26(9.5,1.5) R27(10.5,1.5) R28(11.5,1.5) R29(12.5,1.5) R30(13.5,1.5) R31(14.5,1.5) R32(15.5,1.5) T1(-15.5,0.5) T2(-14.5,0.5) T3(-13.5,0.5) T4(-12.5,0.5) T5(-11.5,0.5) T6(-10.5,0.5) T7(-9.5,0.5) T8(-8.5,0.5) T9(-7.5,0.5) T10(-6.5,0.5) T11(-5.5,0.5) T12(-4.5,0.5) T13(-3.5,0.5) T14(-2.5,0.5) T15(-1.5,0.5) T16(-0.5,0.5) T17(0.5,0.5) T18(1.5,0.5) T19(2.5,0.5) T20(3.5,0.5) T21(4.5,0.5) T22(5.5,0.5) T23(6.5,0.5) T24(7.5,0.5) T25(8.5,0.5) T26(9.5,0.5) T27(10.5,0.5) T28(11.5,0.5) T29(12.5,0.5) T30(13.5,0.5) T31(14.5,0.5) T32(15.5,0.5) U1(-15.5,-0.5) U2(-14.5,-0.5) U3(-13.5,-0.5) U4(-12.5,-0.5) U5(-11.5,-0.5) U6(-10.5,-0.5) U7(-9.5,-0.5) U8(-8.5,-0.5) U9(-7.5,-0.5) U10(-6.5,-0.5) U11(-5.5,-0.5) U12(-4.5,-0.5) U13(-3.5,-0.5) U14(-2.5,-0.5) U15(-1.5,-0.5) U16(-0.5,-0.5) U17(0.5,-0.5) U18(1.5,-0.5) U19(2.5,-0.5) U20(3.5,-0.5) U21(4.5,-0.5) U22(5.5,-0.5) U23(6.5,-0.5) U24(7.5,-0.5) U25(8.5,-0.5) U26(9.5,-0.5) U27(10.5,-0.5) U28(11.5,-0.5) U29(12.5,-0.5) U30(13.5,-0.5) U31(14.5,-0.5) U32(15.5,-0.5) V1(-15.5,-1.5) V2(-14.5,-1.5) V3(-13.5,-1.5) V4(-12.5,-1.5) V5(-11.5,-1.5) V6(-10.5,-1.5) V7(-9.5,-1.5) V8(-8.5,-1.5) V9(-7.5,-1.5) V10(-6.5,-1.5) V11(-5.5,-1.5) V12(-4.5,-1.5) V13(-3.5,-1.5) V14(-2.5,-1.5) V15(-1.5,-1.5) V16(-0.5,-1.5) V17(0.5,-1.5) V18(1.5,-1.5) V19(2.5,-1.5) V20(3.5,-1.5) V21(4.5,-1.5) V22(5.5,-1.5) V23(6.5,-1.5) V24(7.5,-1.5) V25(8.5,-1.5) V26(9.5,-1.5) V27(10.5,-1.5) V28(11.5,-1.5) V29(12.5,-1.5) V30(13.5,-1.5) V31(14.5,-1.5) V32(15.5,-1.5) W1(-15.5,-2.5) W2(-14.5,-2.5) W3(-13.5,-2.5) W4(-12.5,-2.5) W5(-11.5,-2.5) W6(-10.5,-2.5) W7(-9.5,-2.5) W8(-8.5,-2.5) W9(-7.5,-2.5) W10(-6.5,-2.5) W11(-5.5,-2.5) W12(-4.5,-2.5) W13(-3.5,-2.5) W14(-2.5,-2.5) W15(-1.5,-2.5) W16(-0.5,-2.5) W17(0.5,-2.5) W18(1.5,-2.5) W19(2.5,-2.5) W20(3.5,-2.5) W21(4.5,-2.5) W22(5.5,-2.5) W23(6.5,-2.5) W24(7.5,-2.5) W25(8.5,-2.5) W26(9.5,-2.5) W27(10.5,-2.5) W28(11.5,-2.5) W29(12.5,-2.5) W30(13.5,-2.5) W31(14.5,-2.5) W32(15.5,-2.5) Y1(-15.5,-3.5) Y2(-14.5,-3.5) Y3(-13.5,-3.5) Y4(-12.5,-3.5) Y5(-11.5,-3.5) Y6(-10.5,-3.5) Y7(-9.5,-3.5) Y8(-8.5,-3.5) Y9(-7.5,-3.5) Y10(-6.5,-3.5) Y11(-5.5,-3.5) Y12(-4.5,-3.5) Y13(-3.5,-3.5) Y14(-2.5,-3.5) Y15(-1.5,-3.5) Y16(-0.5,-3.5) Y17(0.5,-3.5) Y18(1.5,-3.5) Y19(2.5,-3.5) Y20(3.5,-3.5) Y21(4.5,-3.5) Y22(5.5,-3.5) Y23(6.5,-3.5) Y24(7.5,-3.5) Y25(8.5,-3.5) Y26(9.5,-3.5) Y27(10.5,-3.5) Y28(11.5,-3.5) Y29(12.5,-3.5) Y30(13.5,-3.5) Y31(14.5,-3.5) Y32(15.5,-3.5)
Top Overlay:
  circle w0.25: c-17.155,15.5 r0.125
  lines w0.2: -16.5,-15.5 -16.5,16.5 15.5,16.5 16.5,15.5 16.5,-15.5 15.5,-16.5 -15.5,-16.5 -16.5,-15.5

## PBGA33X33-FO961 [mm] "BGA; 961 Balls; Body 33 x 33 mm; Pitch 1 mm"
height 3.5
pads (961):
  round 0.5 smd: A1(-15,15) A2(-14,15) A3(-13,15) A4(-12,15) A5(-11,15) A6(-10,15) A7(-9,15) A8(-8,15) A9(-7,15) A10(-6,15) A11(-5,15) A12(-4,15) A13(-3,15) A14(-2,15) A15(-1,15) A16(0,15) A17(1,15) A18(2,15) A19(3,15) A20(4,15) A21(5,15) A22(6,15) A23(7,15) A24(8,15) A25(9,15) A26(10,15) A27(11,15) A28(12,15) A29(13,15) A30(14,15) A31(15,15) AA1(-15,-5) AA2(-14,-5) AA3(-13,-5) AA4(-12,-5) AA5(-11,-5) AA6(-10,-5) AA7(-9,-5) AA8(-8,-5) AA9(-7,-5) AA10(-6,-5) AA11(-5,-5) AA12(-4,-5) AA13(-3,-5) AA14(-2,-5) AA15(-1,-5) AA16(0,-5) AA17(1,-5) AA18(2,-5) AA19(3,-5) AA20(4,-5) AA21(5,-5) AA22(6,-5) AA23(7,-5) AA24(8,-5) AA25(9,-5) AA26(10,-5) AA27(11,-5) AA28(12,-5) AA29(13,-5) AA30(14,-5) AA31(15,-5) AB1(-15,-6) AB2(-14,-6) AB3(-13,-6) AB4(-12,-6) AB5(-11,-6) AB6(-10,-6) AB7(-9,-6) AB8(-8,-6) AB9(-7,-6) AB10(-6,-6) AB11(-5,-6) AB12(-4,-6) AB13(-3,-6) AB14(-2,-6) AB15(-1,-6) AB16(0,-6) AB17(1,-6) AB18(2,-6) AB19(3,-6) AB20(4,-6) AB21(5,-6) AB22(6,-6) AB23(7,-6) AB24(8,-6) AB25(9,-6) AB26(10,-6) AB27(11,-6) AB28(12,-6) AB29(13,-6) AB30(14,-6) AB31(15,-6) AC1(-15,-7) AC2(-14,-7) AC3(-13,-7) AC4(-12,-7) AC5(-11,-7) AC6(-10,-7) AC7(-9,-7) AC8(-8,-7) AC9(-7,-7) AC10(-6,-7) AC11(-5,-7) AC12(-4,-7) AC13(-3,-7) AC14(-2,-7) AC15(-1,-7) AC16(0,-7) AC17(1,-7) AC18(2,-7) AC19(3,-7) AC20(4,-7) AC21(5,-7) AC22(6,-7) AC23(7,-7) AC24(8,-7) AC25(9,-7) AC26(10,-7) AC27(11,-7) AC28(12,-7) AC29(13,-7) AC30(14,-7) AC31(15,-7) AD1(-15,-8) AD2(-14,-8) AD3(-13,-8) AD4(-12,-8) AD5(-11,-8) AD6(-10,-8) AD7(-9,-8) AD8(-8,-8) AD9(-7,-8) AD10(-6,-8) AD11(-5,-8) AD12(-4,-8) AD13(-3,-8) AD14(-2,-8) AD15(-1,-8) AD16(0,-8) AD17(1,-8) AD18(2,-8) AD19(3,-8) AD20(4,-8) AD21(5,-8) AD22(6,-8) AD23(7,-8) AD24(8,-8) AD25(9,-8) AD26(10,-8) AD27(11,-8) AD28(12,-8) AD29(13,-8) AD30(14,-8) AD31(15,-8) AE1(-15,-9) AE2(-14,-9) AE3(-13,-9) AE4(-12,-9) AE5(-11,-9) AE6(-10,-9) AE7(-9,-9) AE8(-8,-9) AE9(-7,-9) AE10(-6,-9) AE11(-5,-9) AE12(-4,-9) AE13(-3,-9) AE14(-2,-9) AE15(-1,-9) AE16(0,-9) AE17(1,-9) AE18(2,-9) AE19(3,-9) AE20(4,-9) AE21(5,-9) AE22(6,-9) AE23(7,-9) AE24(8,-9) AE25(9,-9) AE26(10,-9) AE27(11,-9) AE28(12,-9) AE29(13,-9) AE30(14,-9) AE31(15,-9) AF1(-15,-10) AF2(-14,-10) AF3(-13,-10) AF4(-12,-10) AF5(-11,-10) AF6(-10,-10) AF7(-9,-10) AF8(-8,-10) AF9(-7,-10) AF10(-6,-10) AF11(-5,-10) AF12(-4,-10) AF13(-3,-10) AF14(-2,-10) AF15(-1,-10) AF16(0,-10) AF17(1,-10) AF18(2,-10) AF19(3,-10) AF20(4,-10) AF21(5,-10) AF22(6,-10) AF23(7,-10) AF24(8,-10) AF25(9,-10) AF26(10,-10) AF27(11,-10) AF28(12,-10) AF29(13,-10) AF30(14,-10) AF31(15,-10) AG1(-15,-11) AG2(-14,-11) AG3(-13,-11) AG4(-12,-11) AG5(-11,-11) AG6(-10,-11) AG7(-9,-11) AG8(-8,-11) AG9(-7,-11) AG10(-6,-11) AG11(-5,-11) AG12(-4,-11) AG13(-3,-11) AG14(-2,-11) AG15(-1,-11) AG16(0,-11) AG17(1,-11) AG18(2,-11) AG19(3,-11) AG20(4,-11) AG21(5,-11) AG22(6,-11) AG23(7,-11) AG24(8,-11) AG25(9,-11) AG26(10,-11) AG27(11,-11) AG28(12,-11) AG29(13,-11) AG30(14,-11) AG31(15,-11) AH1(-15,-12) AH2(-14,-12) AH3(-13,-12) AH4(-12,-12) AH5(-11,-12) AH6(-10,-12) AH7(-9,-12) AH8(-8,-12) AH9(-7,-12) AH10(-6,-12) AH11(-5,-12) AH12(-4,-12) AH13(-3,-12) AH14(-2,-12) AH15(-1,-12) AH16(0,-12) AH17(1,-12) AH18(2,-12) AH19(3,-12) AH20(4,-12) AH21(5,-12) AH22(6,-12) AH23(7,-12) AH24(8,-12) AH25(9,-12) AH26(10,-12) AH27(11,-12) AH28(12,-12) AH29(13,-12) AH30(14,-12) AH31(15,-12) AJ1(-15,-13) AJ2(-14,-13) AJ3(-13,-13) AJ4(-12,-13) AJ5(-11,-13) AJ6(-10,-13) AJ7(-9,-13) AJ8(-8,-13) AJ9(-7,-13) AJ10(-6,-13) AJ11(-5,-13) AJ12(-4,-13) AJ13(-3,-13) AJ14(-2,-13) AJ15(-1,-13) AJ16(0,-13) AJ17(1,-13) AJ18(2,-13) AJ19(3,-13) AJ20(4,-13) AJ21(5,-13) AJ22(6,-13) AJ23(7,-13) AJ24(8,-13) AJ25(9,-13) AJ26(10,-13) AJ27(11,-13) AJ28(12,-13) AJ29(13,-13) AJ30(14,-13) AJ31(15,-13) AK1(-15,-14) AK2(-14,-14) AK3(-13,-14) AK4(-12,-14) AK5(-11,-14) AK6(-10,-14) AK7(-9,-14) AK8(-8,-14) AK9(-7,-14) AK10(-6,-14) AK11(-5,-14) AK12(-4,-14) AK13(-3,-14) AK14(-2,-14) AK15(-1,-14) AK16(0,-14) AK17(1,-14) AK18(2,-14) AK19(3,-14) AK20(4,-14) AK21(5,-14) AK22(6,-14) AK23(7,-14) AK24(8,-14) AK25(9,-14) AK26(10,-14) AK27(11,-14) AK28(12,-14) AK29(13,-14) AK30(14,-14) AK31(15,-14) AL1(-15,-15) AL2(-14,-15) AL3(-13,-15) AL4(-12,-15) AL5(-11,-15) AL6(-10,-15) AL7(-9,-15) AL8(-8,-15) AL9(-7,-15) AL10(-6,-15) AL11(-5,-15) AL12(-4,-15) AL13(-3,-15) AL14(-2,-15) AL15(-1,-15) AL16(0,-15) AL17(1,-15) AL18(2,-15) AL19(3,-15) AL20(4,-15) AL21(5,-15) AL22(6,-15) AL23(7,-15) AL24(8,-15) AL25(9,-15) AL26(10,-15) AL27(11,-15) AL28(12,-15) AL29(13,-15) AL30(14,-15) AL31(15,-15) B1(-15,14) B2(-14,14) B3(-13,14) B4(-12,14) B5(-11,14) B6(-10,14) B7(-9,14) B8(-8,14) B9(-7,14) B10(-6,14) B11(-5,14) B12(-4,14) B13(-3,14) B14(-2,14) B15(-1,14) B16(0,14) B17(1,14) B18(2,14) B19(3,14) B20(4,14) B21(5,14) B22(6,14) B23(7,14) B24(8,14) B25(9,14) B26(10,14) B27(11,14) B28(12,14) B29(13,14) B30(14,14) B31(15,14) C1(-15,13) C2(-14,13) C3(-13,13) C4(-12,13) C5(-11,13) C6(-10,13) C7(-9,13) C8(-8,13) C9(-7,13) C10(-6,13) C11(-5,13) C12(-4,13) C13(-3,13) C14(-2,13) C15(-1,13) C16(0,13) C17(1,13) C18(2,13) C19(3,13) C20(4,13) C21(5,13) C22(6,13) C23(7,13) C24(8,13) C25(9,13) C26(10,13) C27(11,13) C28(12,13) C29(13,13) C30(14,13) C31(15,13) D1(-15,12) D2(-14,12) D3(-13,12) D4(-12,12) D5(-11,12) D6(-10,12) D7(-9,12) D8(-8,12) D9(-7,12) D10(-6,12) D11(-5,12) D12(-4,12) D13(-3,12) D14(-2,12) D15(-1,12) D16(0,12) D17(1,12) D18(2,12) D19(3,12) D20(4,12) D21(5,12) D22(6,12) D23(7,12) D24(8,12) D25(9,12) D26(10,12) D27(11,12) D28(12,12) D29(13,12) D30(14,12) D31(15,12) E1(-15,11) E2(-14,11) E3(-13,11) E4(-12,11) E5(-11,11) E6(-10,11) E7(-9,11) E8(-8,11) E9(-7,11) E10(-6,11) E11(-5,11) E12(-4,11) E13(-3,11) E14(-2,11) E15(-1,11) E16(0,11) E17(1,11) E18(2,11) E19(3,11) E20(4,11) E21(5,11) E22(6,11) E23(7,11) E24(8,11) E25(9,11) E26(10,11) E27(11,11) E28(12,11) E29(13,11) E30(14,11) E31(15,11) F1(-15,10) F2(-14,10) F3(-13,10) F4(-12,10) F5(-11,10) F6(-10,10) F7(-9,10) F8(-8,10) F9(-7,10) F10(-6,10) F11(-5,10) F12(-4,10) F13(-3,10) F14(-2,10) F15(-1,10) F16(0,10) F17(1,10) F18(2,10) F19(3,10) F20(4,10) F21(5,10) F22(6,10) F23(7,10) F24(8,10) F25(9,10) F26(10,10) F27(11,10) F28(12,10) F29(13,10) F30(14,10) F31(15,10) G1(-15,9) G2(-14,9) G3(-13,9) G4(-12,9) G5(-11,9) G6(-10,9) G7(-9,9) G8(-8,9) G9(-7,9) G10(-6,9) G11(-5,9) G12(-4,9) G13(-3,9) G14(-2,9) G15(-1,9) G16(0,9) G17(1,9) G18(2,9) G19(3,9) G20(4,9) G21(5,9) G22(6,9) G23(7,9) G24(8,9) G25(9,9) G26(10,9) G27(11,9) G28(12,9) G29(13,9) G30(14,9) G31(15,9) H1(-15,8) H2(-14,8) H3(-13,8) H4(-12,8) H5(-11,8) H6(-10,8) H7(-9,8) H8(-8,8) H9(-7,8) H10(-6,8) H11(-5,8) H12(-4,8) H13(-3,8) H14(-2,8) H15(-1,8) H16(0,8) H17(1,8) H18(2,8) H19(3,8) H20(4,8) H21(5,8) H22(6,8) H23(7,8) H24(8,8) H25(9,8) H26(10,8) H27(11,8) H28(12,8) H29(13,8) H30(14,8) H31(15,8) J1(-15,7) J2(-14,7) J3(-13,7) J4(-12,7) J5(-11,7) J6(-10,7) J7(-9,7) J8(-8,7) J9(-7,7) J10(-6,7) J11(-5,7) J12(-4,7) J13(-3,7) J14(-2,7) J15(-1,7) J16(0,7) J17(1,7) J18(2,7) J19(3,7) J20(4,7) J21(5,7) J22(6,7) J23(7,7) J24(8,7) J25(9,7) J26(10,7) J27(11,7) J28(12,7) J29(13,7) J30(14,7) J31(15,7) K1(-15,6) K2(-14,6) K3(-13,6) K4(-12,6) K5(-11,6) K6(-10,6) K7(-9,6) K8(-8,6) K9(-7,6) K10(-6,6) K11(-5,6) K12(-4,6) K13(-3,6) K14(-2,6) K15(-1,6) K16(0,6) K17(1,6) K18(2,6) K19(3,6) K20(4,6) K21(5,6) K22(6,6) K23(7,6) K24(8,6) K25(9,6) K26(10,6) K27(11,6) K28(12,6) K29(13,6) K30(14,6) K31(15,6) L1(-15,5) L2(-14,5) L3(-13,5) L4(-12,5) L5(-11,5) L6(-10,5) L7(-9,5) L8(-8,5) L9(-7,5) L10(-6,5) L11(-5,5) L12(-4,5) L13(-3,5) L14(-2,5) L15(-1,5) L16(0,5) L17(1,5) L18(2,5) L19(3,5) L20(4,5) L21(5,5) L22(6,5) L23(7,5) L24(8,5) L25(9,5) L26(10,5) L27(11,5) L28(12,5) L29(13,5) L30(14,5) L31(15,5) M1(-15,4) M2(-14,4) M3(-13,4) M4(-12,4) M5(-11,4) M6(-10,4) M7(-9,4) M8(-8,4) M9(-7,4) M10(-6,4) M11(-5,4) M12(-4,4) M13(-3,4) M14(-2,4) M15(-1,4) M16(0,4) M17(1,4) M18(2,4) M19(3,4) M20(4,4) M21(5,4) M22(6,4) M23(7,4) M24(8,4) M25(9,4) M26(10,4) M27(11,4) M28(12,4) M29(13,4) M30(14,4) M31(15,4) N1(-15,3) N2(-14,3) N3(-13,3) N4(-12,3) N5(-11,3) N6(-10,3) N7(-9,3) N8(-8,3) N9(-7,3) N10(-6,3) N11(-5,3) N12(-4,3) N13(-3,3) N14(-2,3) N15(-1,3) N16(0,3) N17(1,3) N18(2,3) N19(3,3) N20(4,3) N21(5,3) N22(6,3) N23(7,3) N24(8,3) N25(9,3) N26(10,3) N27(11,3) N28(12,3) N29(13,3) N30(14,3) N31(15,3) P1(-15,2) P2(-14,2) P3(-13,2) P4(-12,2) P5(-11,2) P6(-10,2) P7(-9,2) P8(-8,2) P9(-7,2) P10(-6,2) P11(-5,2) P12(-4,2) P13(-3,2) P14(-2,2) P15(-1,2) P16(0,2) P17(1,2) P18(2,2) P19(3,2) P20(4,2) P21(5,2) P22(6,2) P23(7,2) P24(8,2) P25(9,2) P26(10,2) P27(11,2) P28(12,2) P29(13,2) P30(14,2) P31(15,2) R1(-15,1) R2(-14,1) R3(-13,1) R4(-12,1) R5(-11,1) R6(-10,1) R7(-9,1) R8(-8,1) R9(-7,1) R10(-6,1) R11(-5,1) R12(-4,1) R13(-3,1) R14(-2,1) R15(-1,1) R16(0,1) R17(1,1) R18(2,1) R19(3,1) R20(4,1) R21(5,1) R22(6,1) R23(7,1) R24(8,1) R25(9,1) R26(10,1) R27(11,1) R28(12,1) R29(13,1) R30(14,1) R31(15,1) T1(-15,0) T2(-14,0) T3(-13,0) T4(-12,0) T5(-11,0) T6(-10,0) T7(-9,0) T8(-8,0) T9(-7,0) T10(-6,0) T11(-5,0) T12(-4,0) T13(-3,0) T14(-2,0) T15(-1,0) T16(0,0) T17(1,0) T18(2,0) T19(3,0) T20(4,0) T21(5,0) T22(6,0) T23(7,0) T24(8,0) T25(9,0) T26(10,0) T27(11,0) T28(12,0) T29(13,0) T30(14,0) T31(15,0) U1(-15,-1) U2(-14,-1) U3(-13,-1) U4(-12,-1) U5(-11,-1) U6(-10,-1) U7(-9,-1) U8(-8,-1) U9(-7,-1) U10(-6,-1) U11(-5,-1) U12(-4,-1) U13(-3,-1) U14(-2,-1) U15(-1,-1) U16(0,-1) U17(1,-1) U18(2,-1) U19(3,-1) U20(4,-1) U21(5,-1) U22(6,-1) U23(7,-1) U24(8,-1) U25(9,-1) U26(10,-1) U27(11,-1) U28(12,-1) U29(13,-1) U30(14,-1) U31(15,-1) V1(-15,-2) V2(-14,-2) V3(-13,-2) V4(-12,-2) V5(-11,-2) V6(-10,-2) V7(-9,-2) V8(-8,-2) V9(-7,-2) V10(-6,-2) V11(-5,-2) V12(-4,-2) V13(-3,-2) V14(-2,-2) V15(-1,-2) V16(0,-2) V17(1,-2) V18(2,-2) V19(3,-2) V20(4,-2) V21(5,-2) V22(6,-2) V23(7,-2) V24(8,-2) V25(9,-2) V26(10,-2) V27(11,-2) V28(12,-2) V29(13,-2) V30(14,-2) V31(15,-2) W1(-15,-3) W2(-14,-3) W3(-13,-3) W4(-12,-3) W5(-11,-3) W6(-10,-3) W7(-9,-3) W8(-8,-3) W9(-7,-3) W10(-6,-3) W11(-5,-3) W12(-4,-3) W13(-3,-3) W14(-2,-3) W15(-1,-3) W16(0,-3) W17(1,-3) W18(2,-3) W19(3,-3) W20(4,-3) W21(5,-3) W22(6,-3) W23(7,-3) W24(8,-3) W25(9,-3) W26(10,-3) W27(11,-3) W28(12,-3) W29(13,-3) W30(14,-3) W31(15,-3) Y1(-15,-4) Y2(-14,-4) Y3(-13,-4) Y4(-12,-4) Y5(-11,-4) Y6(-10,-4) Y7(-9,-4) Y8(-8,-4) Y9(-7,-4) Y10(-6,-4) Y11(-5,-4) Y12(-4,-4) Y13(-3,-4) Y14(-2,-4) Y15(-1,-4) Y16(0,-4) Y17(1,-4) Y18(2,-4) Y19(3,-4) Y20(4,-4) Y21(5,-4) Y22(6,-4) Y23(7,-4) Y24(8,-4) Y25(9,-4) Y26(10,-4) Y27(11,-4) Y28(12,-4) Y29(13,-4) Y30(14,-4) Y31(15,-4)
Top Overlay:
  circle w0.25: c-17.155,15 r0.125
  lines w0.2: -16.5,-15.5 -15.5,-16.5 15.5,-16.5 16.5,-15.5 16.5,15.5 15.5,16.5 -16.5,16.5 -16.5,-15.5